# EAGLE library part 39-29-3066 (library teensylu)
Mini FIT connector 6 pol Without Snap-in peg Source: http://www.molex.com
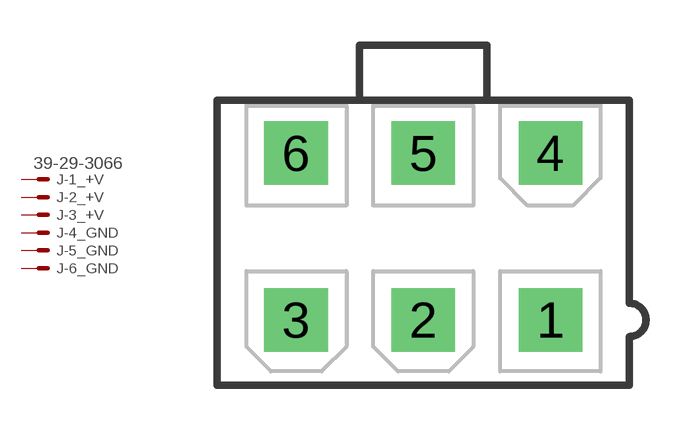
[diagram p0: symbol with the pads of 39-29-3066; footprint 39-29-3066]

Designator prefix J; gates -1_+V=MV -2_+V=M -3_+V=M -4_GND=M -5_GND=M -6_GND=M

## 39-29-3066 (MANUFACTURER: Molex; MANUFACTURER_PART_NUMBER: 0039293066)  [39-29-3066]
1  -1_+V:S  pas
2  -2_+V:S  pas
3  -3_+V:S  pas
4  -4_GND:S  pas
5  -5_GND:S  pas
6  -6_GND:S  pas

## Footprint 39-29-3066 (pad centres in mm)
Mini FIT connector 6 pol Source: http://www.molex.com
drill 1.4 square: 1 4.2,-2.75; 2 0,-2.75; 3 -4.2,-2.75; 4 4.2,2.75; 5 0,2.75; 6 -4.2,2.75